# Altium footprint library expansion_library.PcbLib: 6 footprints
Each footprint in its own frame and in the unit in brackets; x right, y up, seen from the top. Pads: shape width x height; smd on the part's side, far side on the other; paste and mask are expansions set on the pad; w line width, h text height; cw(c..) or ccw(c..) is an arc to the next point about the centre after c.
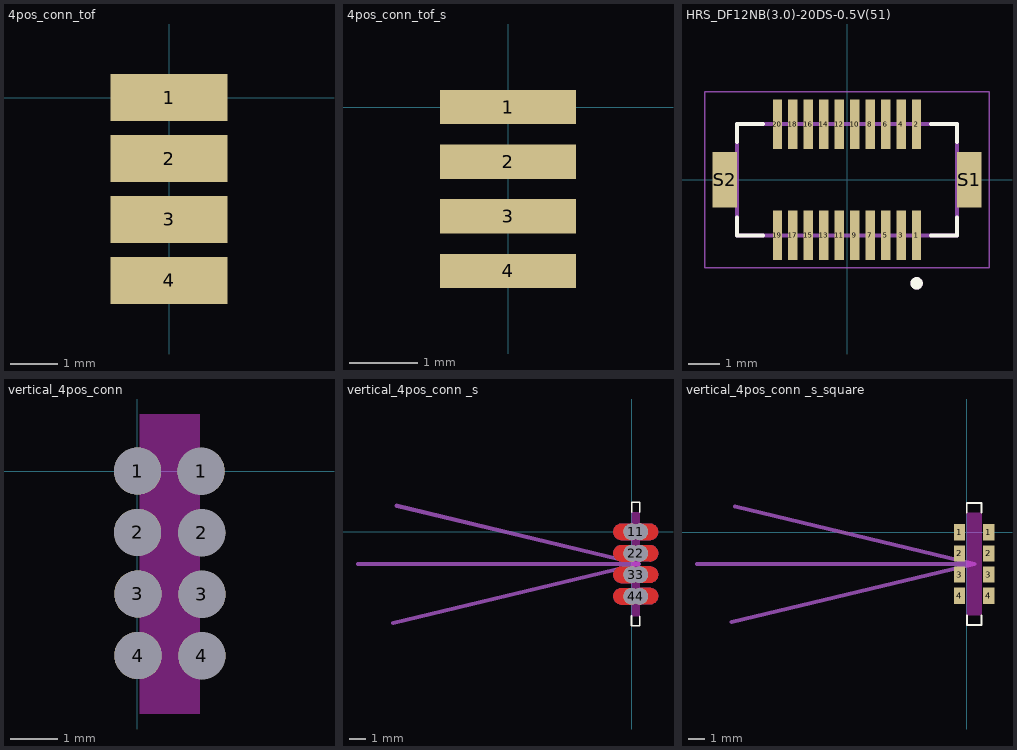
[diagram p0: the footprints below, top view; thin cyan lines are the x and y axes]

## 4pos_conn_tof [mm]
pads (4):
  rect 2.5x1 smd: 1(0,0) 2(0,-1.3) 3(0,-2.6) 4(0,-3.9)

## 4pos_conn_tof_s [mm]
pads (4):
  rect 2x0.5 smd: 1(0,0) 2(0,-0.8) 3(0,-1.6) 4(0,-2.4)

## HRS_DF12NB(3.0)-20DS-0.5V(51) [mm]
pads (22):
  rect 0.3x1.6 smd paste-2 mask+0.05: 1(2.25,-1.8) 2(2.25,1.8) 3(1.75,-1.8) 4(1.75,1.8) 5(1.25,-1.8) 6(1.25,1.8) 7(0.75,-1.8) 8(0.75,1.8) 9(0.25,-1.8) 10(0.25,1.8) 11(-0.25,-1.8) 12(-0.25,1.8) 13(-0.75,-1.8) 14(-0.75,1.8) 15(-1.25,-1.8) 16(-1.25,1.8) 17(-1.75,-1.8) 18(-1.75,1.8) 19(-2.25,-1.8) 20(-2.25,1.8)
  rect 0.8x1.8 smd: S1(3.95,0) S2(-3.95,0)
Top Overlay:
  circle w0.2: c2.25,-3.35 r0.1
  lines w0.127: -3.55,-1.22 -3.55,-1.8 -2.72,-1.8 ; -3.55,1.22 -3.55,1.8 -2.72,1.8 ; 2.72,-1.8 3.55,-1.8 3.55,-1.22 ; 2.72,1.8 3.55,1.8 3.55,1.22
Top Paste:
  region: -2.11,-2.6 -2.39,-2.6 -2.39,-1.4 -2.11,-1.4
  region: -2.11,1.4 -2.39,1.4 -2.39,2.6 -2.11,2.6
  region: -1.61,-2.6 -1.89,-2.6 -1.89,-1.4 -1.61,-1.4
  region: -1.61,1.4 -1.89,1.4 -1.89,2.6 -1.61,2.6
  region: -1.11,-2.6 -1.39,-2.6 -1.39,-1.4 -1.11,-1.4
  region: -1.11,1.4 -1.39,1.4 -1.39,2.6 -1.11,2.6
  region: -0.61,-2.6 -0.89,-2.6 -0.89,-1.4 -0.61,-1.4
  region: -0.61,1.4 -0.89,1.4 -0.89,2.6 -0.61,2.6
  region: -0.11,-2.6 -0.39,-2.6 -0.39,-1.4 -0.11,-1.4
  region: -0.11,1.4 -0.39,1.4 -0.39,2.6 -0.11,2.6
  region: 0.39,-2.6 0.11,-2.6 0.11,-1.4 0.39,-1.4
  region: 0.39,1.4 0.11,1.4 0.11,2.6 0.39,2.6
  region: 0.89,-2.6 0.61,-2.6 0.61,-1.4 0.89,-1.4
  region: 0.89,1.4 0.61,1.4 0.61,2.6 0.89,2.6
  region: 1.39,-2.6 1.11,-2.6 1.11,-1.4 1.39,-1.4
  region: 1.39,1.4 1.11,1.4 1.11,2.6 1.39,2.6
  region: 1.89,-2.6 1.61,-2.6 1.61,-1.4 1.89,-1.4
  region: 1.89,1.4 1.61,1.4 1.61,2.6 1.89,2.6
  region: 2.39,-2.6 2.11,-2.6 2.11,-1.4 2.39,-1.4
  region: 2.39,1.4 2.11,1.4 2.11,2.6 2.39,2.6
Mechanical 13:
  circle w0.2: c2.25,-3.35 r0.1
  lines w0.127: -3.55,-1.8 3.55,-1.8 3.55,1.8 -3.55,1.8 -3.55,-1.8
Mechanical 15:
  lines w0.05: -4.6,-2.85 4.6,-2.85 4.6,2.85 -4.6,2.85 -4.6,-2.85
3D body "DF12NB-3.0--20DS-0.5V-51---3DModel-STEP-1.STEP": height 2.2, standoff 0, extent -4,-2.4 4.1,2.2

## vertical_4pos_conn [mm]
pads (8):
  round 1 hole 1: 1(0.01,0) 1(1.356,-0.005) 2(0.01,-1.3) 2(1.371,-1.308) 3(0.018,-2.604) 3(1.375,-2.61) 4(0.02,-3.91) 4(1.373,-3.913)
Keep-Out Layer:
  board cut-out: 0.055,1.21 1.325,1.21 1.325,-5.15 0.055,-5.15
Multi-Layer:
  region: 2.464,0.495 2.563,0.495 2.747,0.419 2.888,0.279 2.964,0.095 2.964,-0.104 2.888,-0.288 2.747,-0.428 2.563,-0.505 2.464,-0.505 1.364,-0.505 1.364,0.495
  region: 2.456,-3.413 1.356,-3.413 1.356,-4.413 2.456,-4.413 2.555,-4.413 2.739,-4.337 2.88,-4.197 2.956,-4.013 2.956,-3.814 2.88,-3.63 2.739,-3.49 2.555,-3.413
  region: 2.479,-0.808 2.578,-0.808 2.762,-0.884 2.902,-1.025 2.979,-1.208 2.979,-1.407 2.902,-1.591 2.762,-1.732 2.578,-1.808 2.479,-1.808 1.379,-1.808 1.379,-0.808
  region: -1.085,-3.104 -1.184,-3.104 -1.368,-3.028 -1.509,-2.887 -1.585,-2.703 -1.585,-2.505 -1.509,-2.321 -1.368,-2.18 -1.184,-2.104 -1.085,-2.104 0.01,-2.104 0.01,-3.104
  region: -1.065,-4.41 0.037,-4.41 0.037,-3.41 -1.065,-3.41 -1.164,-3.41 -1.348,-3.486 -1.489,-3.627 -1.565,-3.811 -1.565,-4.009 -1.489,-4.193 -1.348,-4.334 -1.164,-4.41
  region: -1.13,-0.5 -1.229,-0.5 -1.413,-0.424 -1.554,-0.283 -1.63,-0.099 -1.63,0.099 -1.554,0.283 -1.413,0.424 -1.229,0.5 -1.13,0.5 0.002,0.5 0.002,-0.5
  region: -1.088,-1.8 -1.187,-1.8 -1.371,-1.724 -1.512,-1.583 -1.588,-1.399 -1.588,-1.201 -1.512,-1.017 -1.371,-0.876 -1.187,-0.8 -1.088,-0.8 0.002,-0.8 0.002,-1.8
  region: 2.483,-2.11 2.583,-2.11 2.766,-2.186 2.907,-2.327 2.983,-2.511 2.983,-2.71 2.907,-2.893 2.766,-3.034 2.583,-3.11 2.483,-3.11 1.383,-3.11 1.383,-2.11
  lines w0.1: -1.14,-0.5 0.002,-0.5 0.002,0.5 -1.13,0.5 ccw(c-1.13,0) -1.13,-0.5 ; -1.098,-1.8 0.002,-1.8 0.002,-0.8 ; -1.095,-3.1 0.005,-3.1 ; -1.088,-1.8 cw(c-1.088,-1.3) -1.088,-0.8 0.012,-0.8 ; -1.085,-3.1 cw(c-1.085,-2.6) -1.085,-2.1 0.015,-2.1 ; 0.01,-3.104 0.01,-2.104 ; 0.035,-4.41 -1.065,-4.41 cw(c-1.065,-3.91) -1.065,-3.41 0.035,-3.41 ; 0.037,-4.41 0.037,-3.41 ; 1.356,-4.413 2.456,-4.413 ccw(c2.456,-3.913) 2.456,-3.413 1.356,-3.413 1.356,-4.413 ; 1.364,-0.505 1.364,0.495 2.464,0.495 cw(c2.464,-0.005) 2.464,-0.505 1.364,-0.505 ; 1.379,-1.808 2.479,-1.808 ccw(c2.479,-1.308) 2.479,-0.808 1.379,-0.808 1.379,-1.808 ; 1.383,-3.11 1.383,-2.11 2.483,-2.11 cw(c2.483,-2.61) 2.483,-3.11 1.383,-3.11

## vertical_4pos_conn _s [mm]
pads (16):
  round 0.025 all layers, no hole: 1(-0.524,0) 1(1.024,0) 2(-0.549,-1.299) 2(1.024,-1.3) 3(-0.545,-2.604) 3(1.045,-2.596) 4(-0.531,-3.91) 4(1.049,-3.9)
  round 1 hole 1: 1(0,0) 1(0.5,0) 2(0.002,-1.3) 2(0.5,-1.3) 3(0,-2.6) 3(0.5,-2.6) 4(0,-3.91) 4(0.5,-3.91)
Top Layer:
  region: 0.448,-1.79 0.448,-0.8 1.1,-0.8 1.149,-0.8 1.246,-0.819 1.337,-0.857 1.419,-0.912 1.488,-0.981 1.543,-1.063 1.581,-1.154 1.6,-1.251 1.6,-1.349 1.581,-1.446 1.543,-1.537 1.488,-1.619 1.419,-1.688 1.337,-1.743 1.246,-1.781 1.149,-1.8 1.1,-1.8
  region: -0.6,-0.5 -0.649,-0.5 -0.746,-0.481 -0.837,-0.443 -0.919,-0.388 -0.988,-0.319 -1.043,-0.237 -1.081,-0.146 -1.1,-0.049 -1.1,0.049 -1.081,0.146 -1.043,0.237 -0.988,0.319 -0.919,0.388 -0.837,0.443 -0.746,0.481 -0.649,0.5 -0.6,0.5 0.052,0.5 0.052,-0.5
  region: 1.1,0.5 1.149,0.5 1.246,0.481 1.337,0.443 1.419,0.388 1.488,0.319 1.543,0.237 1.581,0.146 1.6,0.049 1.6,-0.049 1.581,-0.146 1.543,-0.237 1.488,-0.319 1.419,-0.388 1.337,-0.443 1.246,-0.481 1.149,-0.5 1.1,-0.5 0.448,-0.5 0.448,0.5
  region: -0.6,-1.799 -0.649,-1.799 -0.746,-1.78 -0.837,-1.743 -0.919,-1.688 -0.988,-1.618 -1.043,-1.536 -1.081,-1.445 -1.1,-1.349 -1.1,-1.25 -1.081,-1.154 -1.043,-1.063 -0.988,-0.981 -0.919,-0.911 -0.837,-0.856 -0.746,-0.819 -0.649,-0.799 -0.6,-0.799 0.002,-0.799 0.002,-1.799
  region: -0.6,-3.104 -0.649,-3.104 -0.746,-3.085 -0.837,-3.047 -0.919,-2.992 -0.988,-2.923 -1.043,-2.841 -1.081,-2.75 -1.1,-2.653 -1.1,-2.555 -1.081,-2.458 -1.043,-2.367 -0.988,-2.285 -0.919,-2.216 -0.837,-2.161 -0.746,-2.123 -0.649,-2.104 -0.6,-2.104 0.01,-2.104 0.01,-3.104
  region: 1.1,-2.096 1.149,-2.096 1.246,-2.115 1.337,-2.153 1.419,-2.208 1.488,-2.277 1.543,-2.359 1.581,-2.45 1.6,-2.547 1.6,-2.645 1.581,-2.742 1.543,-2.833 1.488,-2.915 1.419,-2.984 1.337,-3.039 1.246,-3.077 1.149,-3.096 1.1,-3.096 0.49,-3.096 0.49,-2.096
  region: -0.6,-4.41 0.037,-4.41 0.037,-3.41 -0.6,-3.41 -0.649,-3.41 -0.746,-3.429 -0.837,-3.467 -0.919,-3.522 -0.988,-3.591 -1.043,-3.673 -1.081,-3.764 -1.1,-3.861 -1.1,-3.959 -1.081,-4.056 -1.043,-4.147 -0.988,-4.229 -0.919,-4.298 -0.837,-4.353 -0.746,-4.391 -0.649,-4.41
  region: 1.1,-3.4 1.149,-3.4 1.246,-3.419 1.337,-3.457 1.419,-3.512 1.488,-3.581 1.543,-3.663 1.581,-3.754 1.6,-3.851 1.6,-3.949 1.581,-4.046 1.543,-4.137 1.488,-4.219 1.419,-4.288 1.337,-4.343 1.246,-4.381 1.149,-4.4 1.1,-4.4 0.498,-4.4 0.498,-3.4
Bottom Layer:
  region: 0.448,-1.79 0.448,-0.8 1.1,-0.8 1.149,-0.8 1.246,-0.819 1.337,-0.857 1.419,-0.912 1.488,-0.981 1.543,-1.063 1.581,-1.154 1.6,-1.251 1.6,-1.349 1.581,-1.446 1.543,-1.537 1.488,-1.619 1.419,-1.688 1.337,-1.743 1.246,-1.781 1.149,-1.8 1.1,-1.8
  region: -0.6,-0.5 -0.649,-0.5 -0.746,-0.481 -0.837,-0.443 -0.919,-0.388 -0.988,-0.319 -1.043,-0.237 -1.081,-0.146 -1.1,-0.049 -1.1,0.049 -1.081,0.146 -1.043,0.237 -0.988,0.319 -0.919,0.388 -0.837,0.443 -0.746,0.481 -0.649,0.5 -0.6,0.5 0.052,0.5 0.052,-0.5
  region: 1.1,0.5 1.149,0.5 1.246,0.481 1.337,0.443 1.419,0.388 1.488,0.319 1.543,0.237 1.581,0.146 1.6,0.049 1.6,-0.049 1.581,-0.146 1.543,-0.237 1.488,-0.319 1.419,-0.388 1.337,-0.443 1.246,-0.481 1.149,-0.5 1.1,-0.5 0.448,-0.5 0.448,0.5
  region: -0.6,-1.799 -0.649,-1.799 -0.746,-1.78 -0.837,-1.743 -0.919,-1.688 -0.988,-1.618 -1.043,-1.536 -1.081,-1.445 -1.1,-1.349 -1.1,-1.25 -1.081,-1.154 -1.043,-1.063 -0.988,-0.981 -0.919,-0.911 -0.837,-0.856 -0.746,-0.819 -0.649,-0.799 -0.6,-0.799 0.002,-0.799 0.002,-1.799
  region: -0.6,-3.104 -0.649,-3.104 -0.746,-3.085 -0.837,-3.047 -0.919,-2.992 -0.988,-2.923 -1.043,-2.841 -1.081,-2.75 -1.1,-2.653 -1.1,-2.555 -1.081,-2.458 -1.043,-2.367 -0.988,-2.285 -0.919,-2.216 -0.837,-2.161 -0.746,-2.123 -0.649,-2.104 -0.6,-2.104 0.01,-2.104 0.01,-3.104
  region: 1.1,-2.096 1.149,-2.096 1.246,-2.115 1.337,-2.153 1.419,-2.208 1.488,-2.277 1.543,-2.359 1.581,-2.45 1.6,-2.547 1.6,-2.645 1.581,-2.742 1.543,-2.833 1.488,-2.915 1.419,-2.984 1.337,-3.039 1.246,-3.077 1.149,-3.096 1.1,-3.096 0.49,-3.096 0.49,-2.096
  region: -0.6,-4.41 0.037,-4.41 0.037,-3.41 -0.6,-3.41 -0.649,-3.41 -0.746,-3.429 -0.837,-3.467 -0.919,-3.522 -0.988,-3.591 -1.043,-3.673 -1.081,-3.764 -1.1,-3.861 -1.1,-3.959 -1.081,-4.056 -1.043,-4.147 -0.988,-4.229 -0.919,-4.298 -0.837,-4.353 -0.746,-4.391 -0.649,-4.41
  region: 1.1,-3.4 1.149,-3.4 1.246,-3.419 1.337,-3.457 1.419,-3.512 1.488,-3.581 1.543,-3.663 1.581,-3.754 1.6,-3.851 1.6,-3.949 1.581,-4.046 1.543,-4.137 1.488,-4.219 1.419,-4.288 1.337,-4.343 1.246,-4.381 1.149,-4.4 1.1,-4.4 0.498,-4.4 0.498,-3.4
Top Overlay:
  lines w0.1: 0,-5.7 0.5,-5.7 0.5,-5.11 ; 0,1.2 0,1.8 0.5,1.8 0.5,1.2
  lines w0.11: 0,-5.7 0,-5.11
Keep-Out Layer:
  board cut-out: 0,1.2 0.5,1.2 0.5,-5.11 0,-5.11
Mechanical 15:
  lines w0.254: -16.6,-1.947 0.451,-1.947 ; -14.465,-5.528 0.451,-1.947 ; -14.252,1.583 0.451,-1.947

## vertical_4pos_conn _s_square [mm]
pads (8):
  rect 0.7x1 all layers, no hole: 1(-0.455,0) 1(1.35,0) 2(-0.455,-1.3) 2(1.35,-1.3) 3(-0.455,-2.6) 3(1.35,-2.6) 4(-0.455,-3.9) 4(1.35,-3.9)
Top Overlay:
  lines w0.1: 0,-5.7 0.9,-5.7 0.9,-5.11 ; 0,1.2 0,1.8 0.9,1.8 0.9,1.2
  lines w0.11: 0,-5.7 0,-5.11
Keep-Out Layer:
  board cut-out: 0,1.2 0.9,1.2 0.9,-5.11 0,-5.11
Mechanical 15:
  lines w0.254: -16.6,-1.947 0.451,-1.947 ; -14.465,-5.528 0.451,-1.947 ; -14.252,1.583 0.451,-1.947